# Altium schematic symbol library HEF4071B OR Gate.SchLib: 1 symbol
Pins are listed as number, name and electrical type; pins without a type are passive.

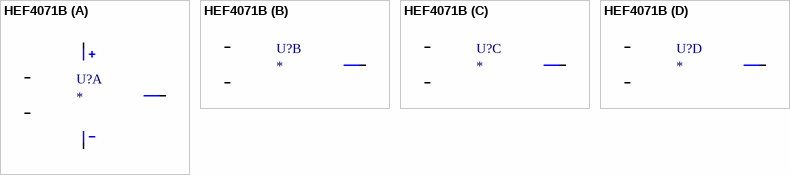
[diagram p0: symbol HEF4071B]

## HEF4071B
designator U?
part A pins: 1 1A, 2 1B, 3 1Y, 7 Vss (power), 14 Vdd (power)
part B pins: 4 2Y, 5 2A, 6 2B
part C pins: 8 3A, 9 3B, 10 3Y
part D pins: 11 4Y, 12 4A, 13 4B